# EAGLE library part 62001621121 (library Board-to-Board (rev18a))
WR-PHD 2.00mm Dual Pin Header, 16 Pins=>Code : WR-PHD_Dual_Pin_Header_62001621121 <http://katalog.we-online.de/media/images/eican/WR-PHD_Dual_Pin_Header_6200xx21121.jpg> Details see: http://katalog.we-online.de/en/em/620_0xx_211_21 Created 2014-06-03, Karrer Zheng 2014 (C) Würth Elektronik
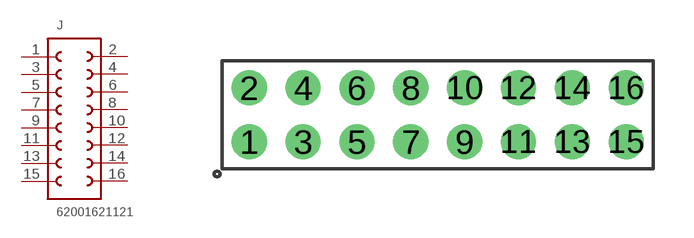
[diagram p225: symbol with the pads of 62001621121; footprint 62001621121]

Designator prefix J

## 62001621121  [62001621121]
1  1  pas
2  16  pas
3  2  pas
4  15  pas
5  3  pas
6  14  pas
7  4  pas
8  13  pas
9  5  pas
10  12  pas
11  6  pas
12  11  pas
13  7  pas
14  10  pas
15  8  pas
16  9  pas

## Footprint 62001621121 (pad centres in mm)
WR-PHD 2.00mm Dual Pin Header, 16 Pins
drill 0.8: 1 -7,-1; 2 -7,1; 3 -5,-1; 4 -5,1; 5 -3,-1; 6 -3,1; 7 -1,-1; 8 -1,1; 9 1,-1; 10 1,1; 11 3,-1; 12 3,1; 13 5,-1; 14 5,1; 15 7,-1; 16 7,1